# EAGLE library part REGULATOR:MAX1846(INVERT) (library QuantumOptics)
MAX1846 Inverting switcher, Maxim High-Efficiency, Current-Mode, Inverting PWM Controller http://pdfserv.maxim-ic.com/en/ds/MAX1846-MAX1847.pdf
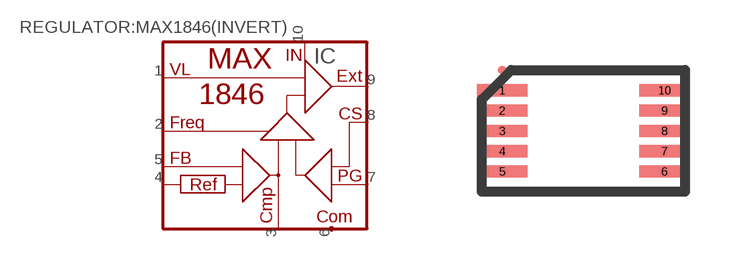
[diagram p47: symbol with the pads of MAXIM_UMAX-10; footprint MAXIM_UMAX-10]

Designator prefix IC

## REGULATOR:MAX1846(INVERT)-UMAX10  [MAXIM_UMAX-10]
1  VL
2  FREQ
3  COMP
4  REF
5  FB
6  GND
7  PGND
8  CS
9  EXT
10  IN

## Footprint MAXIM_UMAX-10 (pad centres in mm)
uMax-10, Maxim's small 10 pin SMT. Uses 0.02" grid, actually should be 0.5mm.
smd 1.27 x 0.305: 1 -2.032,1.016; 2 -2.032,0.508; 3 -2.032,0; 4 -2.032,-0.508; 5 -2.032,-1.016; 6 2.032,-1.016; 7 2.032,-0.508; 8 2.032,0; 9 2.032,0.508; 10 2.032,1.016